# Altium footprint library connector.PcbLib: 180 footprints (part 8 of 12)
Each footprint in its own frame and in the unit in brackets; x right, y up, seen from the top. Pads: shape width x height; smd on the part's side, far side on the other; paste and mask are expansions set on the pad; w line width, h text height; cw(c..) or ccw(c..) is an arc to the next point about the centre after c.
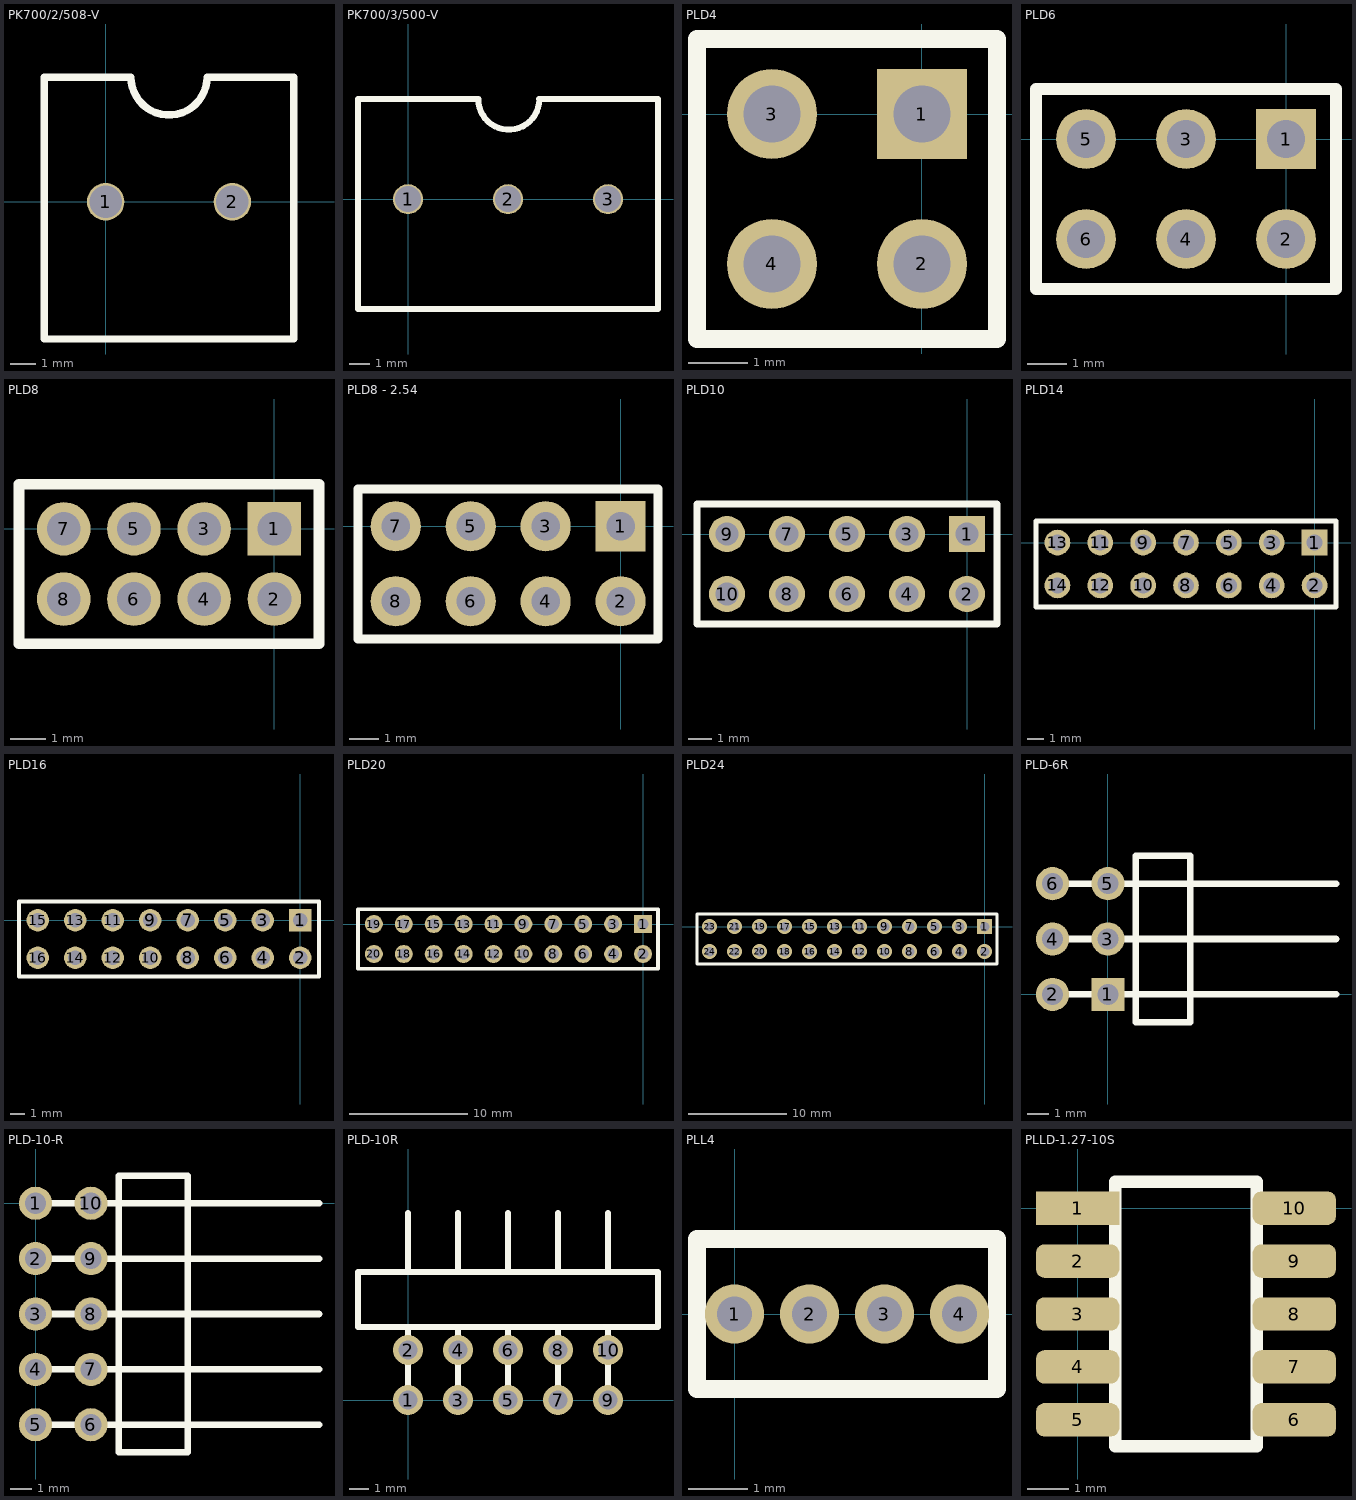
[diagram p7: the footprints below, top view; thin cyan lines are the x and y axes]

## PK700/2/508-V [mm]
pads (2):
  round 1.5 hole 1.3 unplated: 1(0,-0.004) 2(5.08,-0.004)
Top Overlay:
  lines w0.3: -2.46,-5.504 -2.46,4.996 1.016,4.996 ccw(c2.54,4.996) 4.064,4.996 7.54,4.996 7.54,-5.504 -2.46,-5.504

## PK700/3/500-V [mm]
pads (3):
  round 1.5 hole 1.3: 1(0,0) 2(5,0) 3(10,0)
Top Overlay:
  lines w0.3: 3.51,5 -2.5,5 -2.5,-5.5 12.5,-5.5 12.5,5 6.56,5 ; 3.516,5 ccw(c5.04,5) 6.564,5

## PLD4 [mil]
pads (4):
  rect 60x60 hole 38: 1(0,0)
  round 60 hole 38: 2(0,-100) 3(-100,0) 4(-100,-100)
Top Overlay:
  lines w11.81: -50,50 50,50 ; 50,-50 50,50 ; 50,50 50,-150 -150,-150 -150,50 50,50

## PLD6 [mil]
pads (6):
  rect 60x60 hole 38: 1(0,0)
  round 60 hole 38: 2(0,-100) 3(-100,0) 4(-100,-100) 5(-200,0) 6(-200,-100)
Top Overlay:
  lines w11.81: -50,50 50,50 ; 50,-50 50,50 ; 50,50 50,-150 -250,-150 -250,50 50,50
3D body "User Library-PLD-6.step": height 334.65, standoff -118.11, extent -250,-149.61 50,47.24

## PLD8 [mil]
pads (8):
  rect 60x60 hole 38: 1(0,0)
  round 60 hole 38: 2(0,-78.74) 3(-78.74,0) 4(-78.74,-78.74) 5(-157.48,0) 6(-157.48,-78.74) 7(-236.22,0) 8(-236.22,-78.74)
Top Overlay:
  lines w11.81: -50,50 50,50 ; 50,-50 50,50 ; 50,50 -286.42,50 -286.42,-128.94 50,-128.94 50,50

## PLD8 - 2.54 [mm]
pads (8):
  rect 1.7x1.7 hole 0.965: 1(0,0)
  round 1.7 hole 0.965: 2(0,-2.54) 3(-2.54,0) 4(-2.54,-2.54) 5(-5.08,0) 6(-5.08,-2.54) 7(-7.62,0) 8(-7.62,-2.54)
Top Overlay:
  lines w0.3: -1.27,1.27 1.27,1.27 ; 1.27,-1.27 1.27,1.27 ; 1.27,1.27 -8.9,1.27 -8.9,-3.825 1.27,-3.825 1.27,1.27

## PLD10 [mil]
pads (10):
  rect 60x60 hole 38: 1(0,0)
  round 60 hole 38: 2(0,-100) 3(-100,0) 4(-100,-100) 5(-200,0) 6(-200,-100) 7(-300,0) 8(-300,-100) 9(-400,0) 10(-400,-100)
Top Overlay:
  lines w11.81: -50,50 50,50 ; 50,-50 50,50 ; 50,50 50,-150 -450,-150 -450,50 50,50

## PLD14 [mil]
pads (14):
  rect 60x60 hole 38: 1(0,0)
  round 60 hole 38: 2(0,-100) 3(-100,0) 4(-100,-100) 5(-200,0) 6(-200,-100) 7(-300,0) 8(-300,-100) 9(-400,0) 10(-400,-100) 11(-500,0) 12(-500,-100) 13(-600,0) 14(-600,-100)
Top Overlay:
  lines w11.81: -50,50 50,50 ; 50,-50 50,50 ; 50,50 -650,50 -650,-150 50,-150 50,50

## PLD16 [mil]
pads (16):
  rect 60x60 hole 38: 1(0,0)
  round 60 hole 38: 2(0,-100) 3(-100,0) 4(-100,-100) 5(-200,0) 6(-200,-100) 7(-300,0) 8(-300,-100) 9(-400,0) 10(-400,-100) 11(-500,0) 12(-500,-100) 13(-600,0) 14(-600,-100) 15(-700,0) 16(-700,-100)
Top Overlay:
  lines w11.81: -50,50 50,50 ; 50,-50 50,50 ; 50,50 50,-150 -750,-150 -750,50 50,50

## PLD20 [mil]
pads (20):
  rect 60x60 hole 38: 1(0,0)
  round 60 hole 38: 2(0,-100) 3(-100,0) 4(-100,-100) 5(-200,0) 6(-200,-100) 7(-300,0) 8(-300,-100) 9(-400,0) 10(-400,-100) 11(-500,0) 12(-500,-100) 13(-600,0) 14(-600,-100) 15(-700,0) 16(-700,-100) 17(-800,0) 18(-800,-100) 19(-900,0) 20(-900,-100)
Top Overlay:
  lines w11.81: -50,50 50,50 ; 50,-50 50,50 ; 50,50 50,-150 -953.15,-150 -953.15,50 50,50

## PLD24 [mil]
pads (24):
  rect 60x60 hole 38: 1(0,0)
  round 60 hole 38: 2(0,-100) 3(-100,0) 4(-100,-100) 5(-200,0) 6(-200,-100) 7(-300,0) 8(-300,-100) 9(-400,0) 10(-400,-100) 11(-500,0) 12(-500,-100) 13(-600,0) 14(-600,-100) 15(-700,0) 16(-700,-100) 17(-800,0) 18(-800,-100) 19(-900,0) 20(-900,-100) 21(-1000,0) 22(-1000,-100) 23(-1100,0) 24(-1100,-100)
Top Overlay:
  lines w11.81: -50,50 50,50 ; 50,-50 50,50 ; 50,50 50,-150 -1150,-150 -1150,50 50,50

## PLD-6R [mil]
pads (6):
  rect 60x60 hole 38: 1(0,0)
  round 60 hole 38: 2(-100,0) 3(0,100) 4(-100,100) 5(0,200) 6(-100,200)
Top Overlay:
  lines w11.81: -100,0 411.81,0 ; -100,100 411.81,100 ; -100,200 411.81,200 ; 148.39,-50 148.43,250.04 ; 148.43,-50 50,-50 50,250 148.43,250

## PLD-10-R [mil]
pads (10):
  round 60 hole 38: 1(0,0) 2(0,-100) 3(0,-200) 4(0,-300) 5(0,-400) 6(100,-400) 7(100,-300) 8(100,-200) 9(100,-100) 10(100,0)
Top Overlay:
  lines w11.81: 0,-400 511.81,-400 ; 0,-300 511.81,-300 ; 0,-200 511.81,-200 ; 0,-100 511.81,-100 ; 0,0 511.81,0 ; 150,-450 275,-450 275,50 150,50 150,-450

## PLD-10R [mil]
pads (10):
  round 60 hole 38: 1(0,0) 2(0,100) 3(100,0) 4(100,100) 5(200,0) 6(200,100) 7(300,0) 8(300,100) 9(400,0) 10(400,100)
Top Overlay:
  lines w11.81: 0,0 0,145.67 ; 0,255.91 0,374.02 ; 100,0 100,145.67 ; 100,255.91 100,374.02 ; 200,0 200,145.67 ; 200,255.91 200,374.02 ; 300,0 300,145.67 ; 300,255.91 300,374.02 ; 400,0 400,145.67 ; 400,255.91 400,374.02 ; -100,145.67 -100,255.91 500,255.91 500,145.67 -100,145.67

## PLL4 [mm]
pads (4):
  round 1 hole 0.6: 1(0,0) 2(1.27,0) 3(2.54,0) 4(3.81,0)
Top Overlay:
  lines w0.3: -0.635,-1.27 -0.635,1.27 4.445,1.27 4.445,-1.27 -0.635,-1.27

## PLLD-1.27-10S [mm]
pads (10):
  rect 2x0.8 smd: 1(0,0)
  rrect50% 2x0.8 smd: 2(0,-1.27) 3(0,-2.54) 4(0,-3.81) 5(0,-5.08) 6(5.2,-5.08) 7(5.2,-3.81) 8(5.2,-2.54) 9(5.2,-1.27) 10(5.2,0)
Top Overlay:
  lines w0.3: 0.9,-5.715 0.9,0.635 4.3,0.635 4.3,-5.715 0.9,-5.715